# Altium footprint library IDCConnectors.PcbLib: 4 footprints
Each footprint in its own frame and in the unit in brackets; x right, y up, seen from the top. Pads: shape width x height; smd on the part's side, far side on the other; paste and mask are expansions set on the pad; w line width, h text height; cw(c..) or ccw(c..) is an arc to the next point about the centre after c.
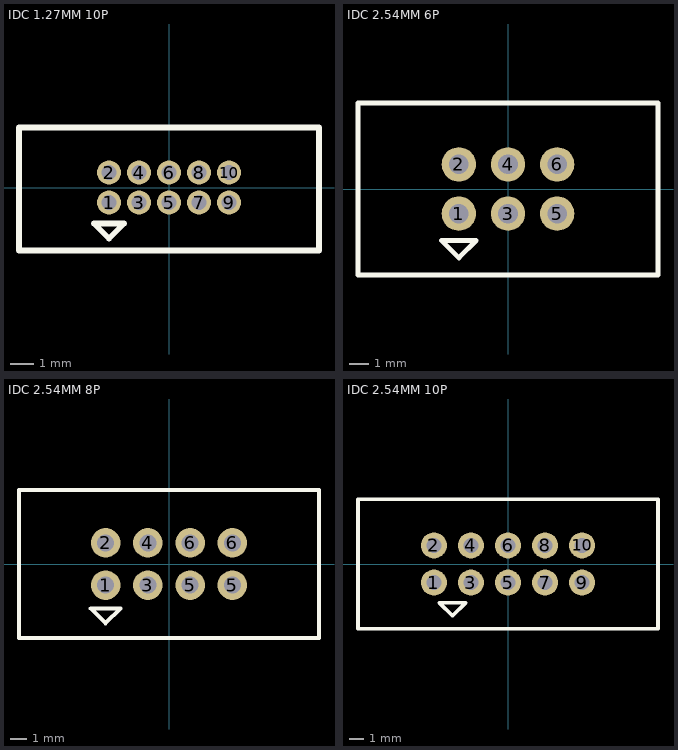
[diagram p0: the footprints below, top view; thin cyan lines are the x and y axes]

## IDC 1.27MM 10P [mil]
pads (10):
  round 40 hole 25: 1(-100,-25) 2(-100,25) 3(-50,-25) 4(-50,25) 5(0,-25) 6(0,25) 7(50,-25) 8(50,25) 9(100,-25) 10(100,25)
Top Overlay:
  lines w10: -250,-105 250,-105 250,100 -250,100 -250,-105 ; -125,-60 -75,-60 -100,-85 -125,-60
3D body "CONB127P-2R-10W_TH.STEP": height 213.6, standoff -81.68, extent -249.01,-104.33 249.02,100.4

## IDC 2.54MM 6P [mil]
pads (6):
  round 70 hole 40: 1(-100,-50) 2(-100,50) 3(0,-50) 4(0,50) 5(100,-50) 6(100,50)
Top Overlay:
  lines w10: -305,-175 305,-175 305,175 -305,175 -305,-175 ; -135,-105 -65,-105 -100,-140 -135,-105
3D body "DS1013-6S (IDC-6MS CONNFLY).stp": height 355.33, standoff -140.73, extent -303.54,-173.22 303.55,173.24

## IDC 2.54MM 8P [mil]
pads (8):
  round 70 hole 40: 1(-150,-50) 2(-150,50) 3(-50,-50) 4(-50,50) 5(50,-50) 5(150,-50) 6(50,50) 6(150,50)
Top Overlay:
  lines w10: -355,-175 355,-175 355,175 -355,175 -355,-175 ; -185,-105 -115,-105 -150,-140 -185,-105
3D body "DS1013-8S (IDC-8MS CONNFLY).stp": height 355.33, standoff -140.73, extent -353.54,-177.16 353.55,173.23

## IDC 2.54MM 10P [mil]
pads (10):
  round 70 hole 40: 1(-200,-50) 2(-200,50) 3(-100,-50) 4(-100,50) 5(0,-50) 6(0,50) 7(100,-50) 8(100,50) 9(200,-50) 10(200,50)
Top Overlay:
  lines w10: -405,-175 405,-175 405,175 -405,175 -405,-175 ; -185,-105 -115,-105 -150,-140 -185,-105
3D body "DS1013-10S (IDC-10MS CONNFLY).stp": height 355.33, standoff -140.73, extent -403.54,-177.16 403.55,173.23